# Altium footprint library PMC-1001S.PcbLib: 1 footprints
Each footprint in its own frame and in the unit in brackets; x right, y up, seen from the top. Pads: shape width x height; smd on the part's side, far side on the other; paste and mask are expansions set on the pad; w line width, h text height; cw(c..) or ccw(c..) is an arc to the next point about the centre after c.
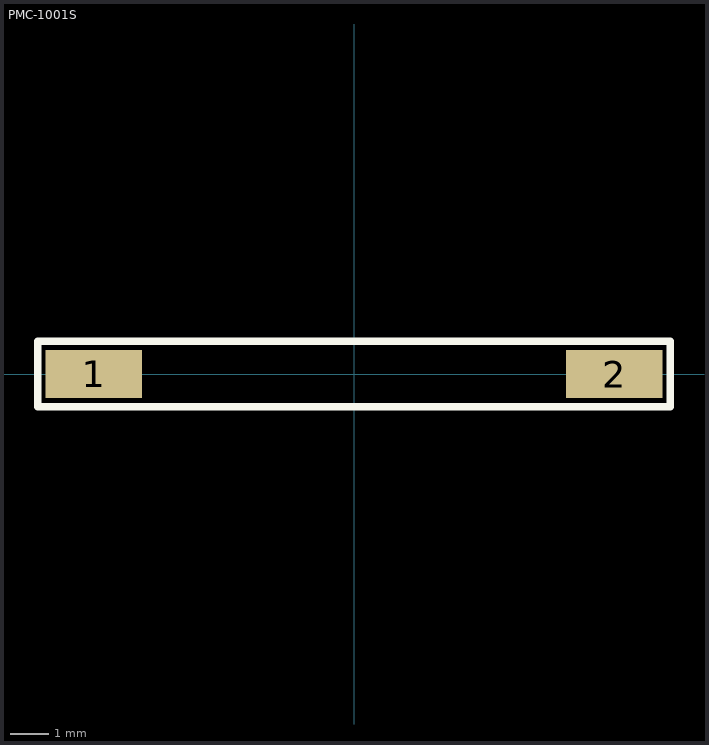
[diagram p0: the footprint, top view; thin cyan lines are the x and y axes]

## PMC-1001S [mm]
height 0.9
pads (2):
  rect 2.5x1.25 smd: 1(-6.75,0) 2(6.75,0)
Top Overlay:
  lines w0.2: -8.2,-0.85 -8.2,0.85 8.2,0.85 8.2,-0.85 -8.2,-0.85
Top Assembly:
  lines w0.1: -8.25,-0.8 8.25,-0.8 8.25,0.8 -8.25,0.8 -8.25,-0.8
  text "'.Designator'" at -0.95,-0.35 h0.7